# Altium schematic symbol library POWER_OUT_PIN.SchLib: 1 symbol
Pins are listed as number, name and electrical type; pins without a type are passive.

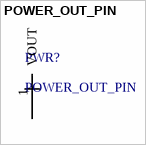
[diagram p0: symbol POWER_OUT_PIN]

## POWER_OUT_PIN
designator PWR?
Power output pin symbol
pins: 1 VOUT (power)